# Altium schematic symbol library 93626-3006.SchLib: 1 symbol
Pins are listed as number, name and electrical type; pins without a type are passive.

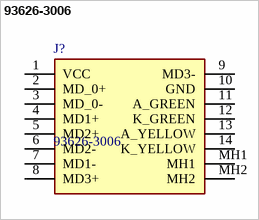
[diagram p0: symbol 93626-3006]

## 93626-3006
designator J?
Modular Connectors / Ethernet Connectors MXMag GIG 8CORE RJ45 W/ LEDs GRN/YLW RA; Manufacturer_Name: Molex; Geometry.Height: 15.4mm; Manufacturer_Part_Number: 93626-3006; Mouser Part Number: 538-93626-3006; Mouser Price/Stock: https://www.mouser.co.uk/ProductDetail/Molex/93626-3006?qs=gt1LBUVyoHkfcDt9i0XvxA%3D%3D; Arrow Part Number: *; Arrow Price/Stock: *; Datasheet Link: https://componentsearchengine.com/Datasheets/2/93626-3006.pdf
footprint 936263006
pins: 1 VCC, 2 MD_0+, 3 MD_0-, 4 MD1+, 5 MD2+, 6 MD2-, 7 MD1-, 8 MD3+, 9 MD3-, 10 GND, 11 A_GREEN, 12 K_GREEN, 13 A_YELLOW, 14 K_YELLOW, MH1, MH2